# Altium integrated library WS-PBTL_rev15a.intlib: 1 symbol
Pins are listed as number, name and electrical type; pins without a type are passive.

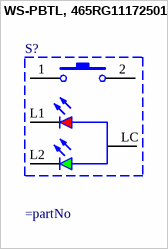
[diagram p0: symbol WS-PBTL, 465RG11172501]

## WS-PBTL, 465RG11172501
designator S?
WS-PBTL Illuminated THT Push button Switch; Manufacturer: Wurth Elektronik; Part No.: 465RG11172501; ComponentLink1 Description: Manufacturer; ComponentLink2 Description: Datasheet; Created Date: Dec.2015; ComponentLink1URL: http://www.we-online.com; ComponentLink2URL: http://katalog.we-online.de/em/datasheet/465RG11172501.pdf; Created by: Baojun Chen
footprint 465RG11172501 (Pushbutton Switch illuminated)
pins: 1, 2, L1, L2, LC